# EAGLE library part SAMTEC-TST-105-01-X-D (library SSW-130-01-G-S)
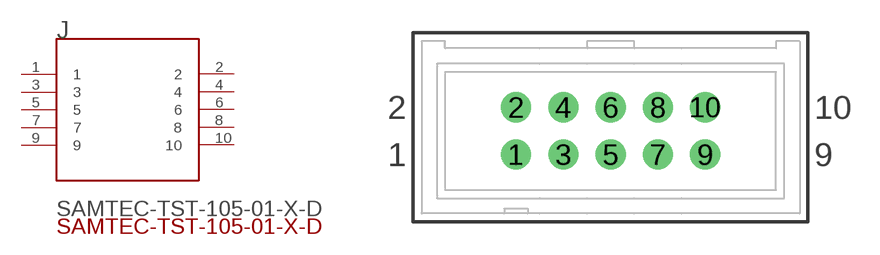
[diagram p9: symbol with the pads of SAMTEC-TST-105-01-X-D; footprint SAMTEC-TST-105-01-X-D]

Designator prefix J

## SAMTEC-TST-105-01-X-DJ  [SAMTEC-TST-105-01-X-D]
1  1  pas
2  2  pas
3  3  pas
4  4  pas
5  5  pas
6  6  pas
7  7  pas
8  8  pas
9  9  pas
10  10  pas

## Footprint SAMTEC-TST-105-01-X-D (pad centres in mm)
translated Allegro footprint
drill 1.02 pad 1.62: 1 -5.08,-1.46; 2 -5.08,1.08; 3 -2.54,-1.46; 4 -2.54,1.08; 5 0,-1.46; 6 0,1.08; 7 2.54,-1.46; 8 2.54,1.08; 9 5.08,-1.46; 10 5.08,1.08